# EAGLE library part AD9834 (library analog-devices)
IC DDS 10BIT 50MHZ LP
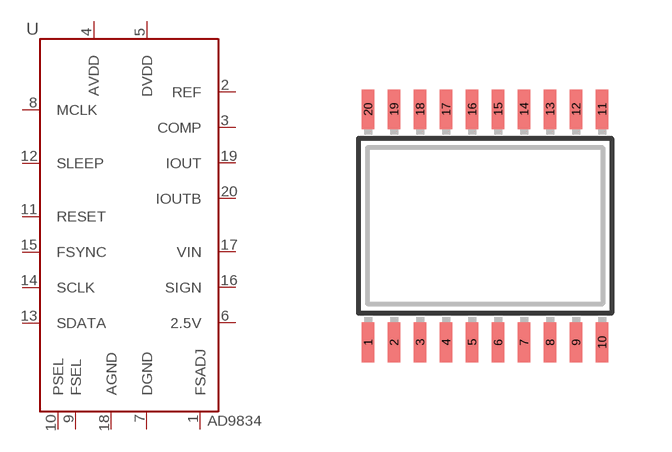
[diagram p68: symbol with the pads of TSSOP20; footprint TSSOP20]

Designator prefix U

## AD9834 (DIGIKEY: AD9834BRUZ-REEL7CT-ND; P1I: o)  [TSSOP20]
1  FSADJ
2  REF
3  COMP
4  AVDD
5  DVDD
6  2.5V
7  DGND
8  MCLK
9  FSEL
10  PSEL
11  RESET
12  SLEEP
13  SDATA
14  SCLK
15  FSYNC
16  SIGN
17  VIN
18  AGND
19  IOUT
20  IOUTB

## Footprint TSSOP20 (pad centres in mm)
Thin Shrink Small Outline Plastic 20
smd 0.305 x 0.991: 1 -2.925,-2.918; 2 -2.275,-2.918; 3 -1.625,-2.918; 4 -0.975,-2.918; 5 -0.325,-2.918; 6 0.325,-2.918; 7 0.975,-2.918; 8 1.625,-2.918; 9 2.275,-2.918; 10 2.925,-2.918; 11 2.925,2.918; 12 2.275,2.918; 13 1.625,2.918; 14 0.975,2.918; 15 0.325,2.918; 16 -0.325,2.918; 17 -0.975,2.918; 18 -1.625,2.918; 19 -2.275,2.918; 20 -2.925,2.918